# Altium schematic symbol library PIN_CubeSat_schlib.SchLib: 11 symbols
Pins are listed as number, name and electrical type; pins without a type are passive.

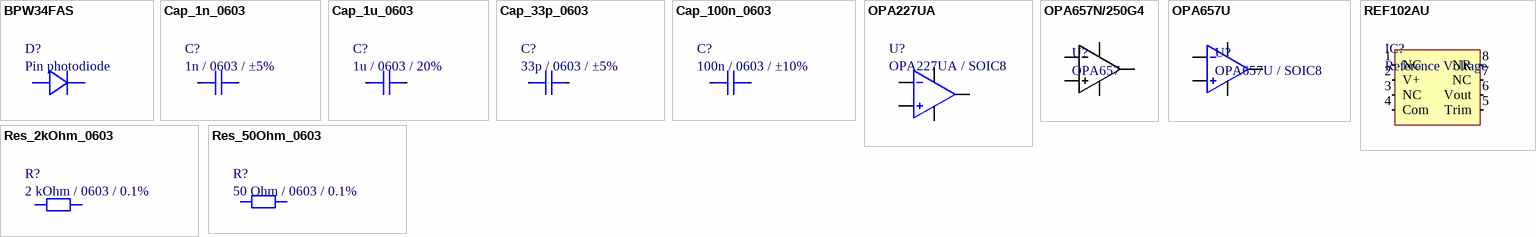
[diagram p0: symbols BPW34FAS to Res_50Ohm_0603]

## BPW34FAS
designator D?, comment Pin photodiode
PHOTODIODE 880NM W/FILTER SMD; Manufacturer: Osram Opto; Manufacturer Part Number: BPW34FAS; Rise Time: 20ns; Dark Current: 2nA; Viewing Angle: 120°; Reverse Breakdown Voltage: 32V; Power Dissipation: 150mW; Max Reverse Voltage (DC): 16V; Forward Voltage: 1.3V; Polarity: Reverse; Forward Current: 100mA; Supplier 1: Mouser; Stock 1: 28913; Pricing 1: 1=1.03, 10=0.802, 100=0.436, 1000=0.382, 1500=0.309, 9000=0.305 (USD); Mount: Surface Mount,PCB; Case/Package: SMD/SMT; Number of Pins: 2; Contact Plating: Tin,Matte; Min Operating Temperature: -40°C; Max Operating Temperature: 100°C; Wavelength: 880nm; Packaging: Bulk; Fall Time: 20ns; Package Quantity: 1500; Diode Type: PIN; Response Time: 20ns; Max Power Dissipation: 150mW; Reverse Voltage (DC): 16V; Length: 4.5mm; Height: 1.2mm; Width: 4mm; Radiation Hardening: No; ComponentLink1URL: http://www.osram-os.com/osram_os/CN/Downloads/IR_data_sheets/documents/BPW34FA_Pb-free_2007_03_30_c.pdf?src-supplier=Avnet; ComponentLink1Description: http://www.osram-os.com/osram_os/CN/Downloads/IR_data_sheets/documents/BPW34FA_Pb-free_2007_03_30_c.pdf?src-supplier=Avnet; ComponentLink2URL: http://uk.rs-online.com/webdocs/08b2/0900766b808b25c9.pdf?src-supplier=RSComponents; ComponentLink2Description: http://uk.rs-online.com/webdocs/08b2/0900766b808b25c9.pdf?src-supplier=RSComponents; ComponentLink3URL: https://media.digikey.com/pdf/Data%20Sheets/Osram%20PDFs/bpw34fa_fas.pdf?src-supplier=Digi-Key; ComponentLink3Description: https://media.digikey.com/pdf/Data%20Sheets/Osram%20PDFs/bpw34fa_fas.pdf?src-supplier=Digi-Key; Supplier Part Number 1: 720-BPW34FAS
footprint BPW34 SMD (VBPW 34 FAS VISHAY)
pins: 1 q, 2

## Cap_1n_0603
designator C?, comment 1n / 0603 / ±5%
WURTH ELEKTRONIK - 885012206083 - CAP, 1000PF, 50V, 10%, X7R, 0603; Manufacturer: Wurth Electronics; Capacitance: 1nF; Supplier 1: Mouser; Manufacturer Part Number: 885012206083; Stock 1: 27742; Pricing 1: 1=0.1, 10=0.018, 100=0.016, 500=0.014, 1000=0.014, 2000=0.014 (USD); Mount: Surface Mount; Case/Package: 0603; Case Code (Metric): 1608; Case Code (Imperial): 0603; Min Operating Temperature: -55°C; Max Operating Temperature: 125°C; Packaging: Cut Tape; Voltage Rating: 50V; Tolerance: 10%; Dielectric: X7R; Voltage Rating (DC): 50V; Length: 0.063inch; Width: 0.031inch; Thickness: 0.037inch; REACH SVHC: Unknown; ComponentLink1URL: http://www.farnell.com/datasheets/1958479.pdf?src-supplier=Farnell; ComponentLink1Description: http://www.farnell.com/datasheets/1958479.pdf?src-supplier=Farnell; ComponentLink2URL: https://katalog.we-online.de/pbs/datasheet/885012206083.pdf?src-supplier=Digi-Key; ComponentLink2Description: https://katalog.we-online.de/pbs/datasheet/885012206083.pdf?src-supplier=Digi-Key; ComponentLink3URL: http://www.farnell.com/datasheets/1958479.pdf?src-supplier=Element14; ComponentLink3Description: http://www.farnell.com/datasheets/1958479.pdf?src-supplier=Element14; ComponentLink4URL: http://www.farnell.com/datasheets/1958479.pdf?src-supplier=Newark; ComponentLink4Description: http://www.farnell.com/datasheets/1958479.pdf?src-supplier=Newark; Supplier Part Number 1: 710-885012206083
footprint Ceramic_Cap_0603 (Chip Capacitor, 2-Leads, Body 1.60x0.80mm, IPC Medium Density)
pins: 1, 2

## Cap_1u_0603
designator C?, comment 1u / 0603 / 20%
WURTH ELEKTRONIK - 885012106017 - SMD Vícevrstvý Keramický Kondenzátor, 1 µF, 16 V, 0603 [1608 Metrické], ± 20%, X5R; Manufacturer: Wurth Electronics; Capacitance: 1uF; Voltage Rating: 16V; Supplier 1: Mouser; Manufacturer Part Number: 885012106017; Stock 1: 24231; Pricing 1: 1=0.3, 10=0.267, 100=0.24, 500=0.212, 1000=0.175, 4000=0.174 (USD); Mount: Surface Mount; Case/Package: 0603; Case Code (Metric): 1608; Case Code (Imperial): 0603; Min Operating Temperature: -55°C; Max Operating Temperature: 85°C; Packaging: Tape and Reel; Tolerance: 20%; Length: 0.063inch; Width: 0.031inch; Thickness: 0.037inch; ComponentLink1URL: http://www.farnell.com/datasheets/2031759.pdf?src-supplier=Newark; ComponentLink1Description: http://www.farnell.com/datasheets/2031759.pdf?src-supplier=Newark; ComponentLink2URL: http://www.farnell.com/datasheets/2031759.pdf?src-supplier=Farnell; ComponentLink2Description: http://www.farnell.com/datasheets/2031759.pdf?src-supplier=Farnell; ComponentLink3URL: https://katalog.we-online.de/pbs/datasheet/885012106017.pdf?src-supplier=Digi-Key; ComponentLink3Description: https://katalog.we-online.de/pbs/datasheet/885012106017.pdf?src-supplier=Digi-Key; ComponentLink4URL: http://www.farnell.com/datasheets/2031759.pdf?src-supplier=Element14; ComponentLink4Description: http://www.farnell.com/datasheets/2031759.pdf?src-supplier=Element14; Supplier Part Number 1: 710-885012106017
footprint Ceramic_Cap_0603 (Chip Capacitor, 2-Leads, Body 1.60x0.80mm, IPC Medium Density)
pins: 1, 2

## Cap_33p_0603
designator C?, comment 33p / 0603 / ±5%
KEMET - C0603C330J2GACTU - SMD Multilayer Ceramic Capacitor, 33 pF, 200 V, 0603 [1608 Metric], ± 5%, C0G / NP0, C Series KEMET; Capacitance: 33pF; Voltage Rating: 200V; Temperature Coefficient: 30ppm/°C; Dissipation Factor: 0.1%; Supplier 1: Mouser; Manufacturer: KEMET; Manufacturer Part Number: C0603C330J2GACTU; Stock 1: 13226; Pricing 1: 1=0.1, 10=0.047, 100=0.046, 500=0.046, 1000=0.046, 4000=0.046 (USD); Mount: Surface Mount; Case/Package: 0603; Number of Pins: 2; Case Code (Metric): 1608; Case Code (Imperial): 0603; Dielectric Material: Ceramic; Min Operating Temperature: -55°C; Max Operating Temperature: 125°C; Tolerance: 5%; Packaging: Tape and Reel; Package Quantity: 1; Voltage Rating (DC): 200V; Dielectric: C0G; Termination: SMD/SMT; Length: 1.6mm; Height: 0.8mm; Width: 0.031inch; Thickness: 0.034inch; Depth: 0.8mm; Lead Pitch: 0.7mm; REACH SVHC: No SVHC; Lead Free: Lead Free; ComponentLink1URL: https://www.verical.com/server-webapp/html/getDatasheet?partID=732561&src-supplier=Verical; ComponentLink1Description: https://www.verical.com/server-webapp/html/getDatasheet?partID=732561&src-supplier=Verical; ComponentLink2URL: http://www.mouser.com/ds/2/212/KEM_C1003_C0G_SMD-1101588.pdf?src-supplier=Mouser; ComponentLink2Description: http://www.mouser.com/ds/2/212/KEM_C1003_C0G_SMD-1101588.pdf?src-supplier=Mouser; ComponentLink3URL: http://www.farnell.com/datasheets/40889.pdf?src-supplier=Element14; ComponentLink3Description: http://www.farnell.com/datasheets/40889.pdf?src-supplier=Element14; Supplier Part Number 1: 80-C0603C330J2G
footprint Model Name (Footprint not found)
footprint Ceramic_Cap_0603 (Chip Capacitor, 2-Leads, Body 1.60x0.80mm, IPC Medium Density)
pins: 1, 2

## Cap_100n_0603
designator C?, comment 100n / 0603 / ±10%
WURTH ELEKTRONIK - 885012206046 - SMD flerskiktig keramisk kondensator, 0.1 µF, 16 V, 0603 [1608 Metrisk], ± 10%, X7R; Manufacturer: Wurth Electronics; Capacitance: 100nF; Voltage Rating: 16V; Supplier 1: Mouser; Manufacturer Part Number: 885012206046; Stock 1: 19698; Pricing 1: 1=0.1, 10=0.056, 100=0.05, 500=0.044, 1000=0.044, 2000=0.037 (USD); Mount: Surface Mount; Case/Package: 0603; Case Code (Metric): 1608; Case Code (Imperial): 0603; Min Operating Temperature: -55°C; Max Operating Temperature: 125°C; Packaging: Cut Tape; Dielectric: X7R; Tolerance: 10%; Voltage Rating (DC): 16V; Length: 0.063inch; Width: 0.031inch; Thickness: 0.034inch; REACH SVHC: Unknown; ComponentLink1URL: http://www.farnell.com/datasheets/1958471.pdf?src-supplier=Element14; ComponentLink1Description: http://www.farnell.com/datasheets/1958471.pdf?src-supplier=Element14; ComponentLink2URL: https://katalog.we-online.de/pbs/datasheet/885012206046.pdf?src-supplier=Digi-Key; ComponentLink2Description: https://katalog.we-online.de/pbs/datasheet/885012206046.pdf?src-supplier=Digi-Key; ComponentLink3URL: http://www.farnell.com/datasheets/1958471.pdf?src-supplier=Farnell; ComponentLink3Description: http://www.farnell.com/datasheets/1958471.pdf?src-supplier=Farnell; ComponentLink4URL: http://www.farnell.com/datasheets/1958471.pdf?src-supplier=Newark; ComponentLink4Description: http://www.farnell.com/datasheets/1958471.pdf?src-supplier=Newark; Supplier Part Number 1: 710-885012206046
footprint Ceramic_Cap_0603 (Chip Capacitor, 2-Leads, Body 1.60x0.80mm, IPC Medium Density)
pins: 1, 2

## OPA227UA
designator U?, comment OPA227UA / SOIC8
OP Amp Single GP 18V 8-Pin SOIC Tube; Manufacturer: Texas Instruments; Nominal Supply Current: 3.8mA; Voltage Gain: 160dB; Min Dual Supply Voltage: 2.5V; Bandwidth: 8MHz; Common Mode Rejection Ratio: 120dB; Number of Channels: 1; Slew Rate: 2.3V/µs; Max I/O Voltage: 200uV; Input Bias Current: 10nA; Output Current: 45mA; Operating Supply Current: 3.7mA; Power Supply Rejection Ratio (PSRR): 126.02dB; Dual Supply Voltage: 9V; Supplier 1: Mouser; Manufacturer Part Number: OPA227UA; Stock 1: 841; Pricing 1: 1=3.92, 10=3.52, 25=3.33, 100=2.74, 250=2.46, 500=2.37 (USD); Case/Package: D; Number of Pins: 8; Contact Plating: Gold; Min Operating Temperature: -40°C; Max Operating Temperature: 85°C; Max Dual Supply Voltage: 18V; Package Quantity: 75; Nominal Gain Bandwidth Product: 8MHz; Packaging: Rail/Tube; Number of Circuits: 1; Gain Bandwidth Product: 8MHz; Input Offset Voltage (Vos): 200uV; Unity Gain Bandwidth Product: 8MHz; Output Current per Channel: 45mA; Number of Elements: 1; Max Supply Voltage: 18V; Number of Amplifiers: 1; Length: 4.9mm; Height: 1.58mm; Width: 3.91mm; Radiation Hardening: No; Lead Free: Lead Free; REACH SVHC: No SVHC; ComponentLink1URL: http://www.jameco.com/Jameco/Products/ProdDS/1486655.pdf?src-supplier=Jameco; ComponentLink1Description: http://www.jameco.com/Jameco/Products/ProdDS/1486655.pdf?src-supplier=Jameco; ComponentLink2URL: http://www.ti.com/lit/ds/symlink/opa227.pdf?src-supplier=Digi-Key; ComponentLink2Description: http://www.ti.com/lit/ds/symlink/opa227.pdf?src-supplier=Digi-Key; ComponentLink3URL: http://www.farnell.com/datasheets/1830992.pdf?src-supplier=Element14; ComponentLink3Description: http://www.farnell.com/datasheets/1830992.pdf?src-supplier=Element14; Supplier Part Number 1: 595-OPA227UA
footprint SOIC8 (SOIC, 8-Leads, Body 5.00x3.98mm, Pitch 1.27mm, IPC Medium Density)
pins: 2 in-, 3 in+, 4 V-, 6 out, 7 V+

## OPA657N/250G4
designator U?, comment OPA657
IC OPAMP VFB 1.6GHZ SOT23-5; Manufacturer: Texas Instruments; Manufacturer Part Number: OPA657N/250G4; Voltage Gain: 70dB; Dual Supply Voltage: 5V; Common Mode Rejection Ratio: 83dB; Max Dual Supply Voltage: 6V; Number of Channels: 1; Slew Rate: 700V/µs; Max I/O Voltage: 600uV; Max Supply Voltage: 12V; Min Supply Voltage: 8V; Input Bias Current: 20pA; Input Offset Voltage (Vos): 250uV; Power Supply Rejection Ratio (PSRR): 76dB; Settling Time: 11ns; -3db Bandwidth: 350MHz; Operating Supply Current: 14mA; Output Current per Channel: 70mA; Supplier 1: Mouser; Stock 1: 0; Case/Package: SOT-23-5; Number of Pins: 5; Min Operating Temperature: -40°C; Max Operating Temperature: 85°C; Packaging: Tape and Reel; Package Quantity: 250; Unity Gain Bandwidth Product: 1.6GHz; Number of Circuits: 1; Gain Bandwidth Product: 1.6GHz; Number of Elements: 1; Bandwidth: 1.6GHz; Operating Supply Voltage: 12V; Length: 2.9mm; Height: 1.15mm; Width: 1.6mm; Lead Free: Lead Free; ComponentLink1URL: http://www.ti.com/lit/ds/symlink/opa657.pdf?src-supplier=Digi-Key; ComponentLink1Description: http://www.ti.com/lit/ds/symlink/opa657.pdf?src-supplier=Digi-Key; ComponentLink2URL: http://focus.ti.com/lit/ds/symlink/opa657.pdf?src-supplier=Avnet; ComponentLink2Description: http://focus.ti.com/lit/ds/symlink/opa657.pdf?src-supplier=Avnet; ComponentLink3URL: http://datasheet.iiic.cc/texas_instruments/OPA657N_250G4.pdf?src-supplier=IIIC; ComponentLink3Description: http://datasheet.iiic.cc/texas_instruments/OPA657N_250G4.pdf?src-supplier=IIIC; Supplier Part Number 1: 595-OPA657N/250G4
pins: 1 out, 2 V-, 3 in+, 4 in-, 5 V+

## OPA657U
designator U?, comment OPA657U / SOIC8
IC OPAMP VFB 1 CIRCUIT 8SOIC; Manufacturer: Texas Instruments; Bandwidth: 350MHz; Dual Supply Voltage: 5V; Max Dual Supply Voltage: 6V; Voltage Gain: 70dB; Unity Gain Bandwidth Product: 1.6GHz; Common Mode Rejection Ratio: 83dB; Number of Channels: 1; Slew Rate: 700V/µs; Max I/O Voltage: 600uV; Max Supply Voltage: 12V; Min Supply Voltage: 8V; Input Bias Current: 20pA; Input Offset Voltage (Vos): 1.8mV; Power Supply Rejection Ratio (PSRR): 76dB; Settling Time: 11ns; Operating Supply Current: 14mA; Output Current per Channel: 70mA; Nominal Supply Current: 16mA; Supplier 1: Mouser; Manufacturer Part Number: OPA657U; Stock 1: 246; Pricing 1: 1=12.96, 10=11.91, 25=11.41, 100=9.56, 250=8.95, 500=8.33 (USD); Case/Package: D; Number of Pins: 8; Weight: 0.002677oz; Contact Plating: Gold; Min Operating Temperature: -40°C; Max Operating Temperature: 85°C; Packaging: Rail/Tube; Package Quantity: 75; Number of Circuits: 1; Gain Bandwidth Product: 1.6GHz; Number of Elements: 1; -3db Bandwidth: 350MHz; Number of Amplifiers: 1; Length: 4.9mm; Height: 1.58mm; Width: 3.91mm; Radiation Hardening: No; Lead Free: Lead Free; REACH SVHC: No SVHC; ComponentLink1URL: http://www.farnell.com/datasheets/1862474.pdf?src-supplier=Element14; ComponentLink1Description: http://www.farnell.com/datasheets/1862474.pdf?src-supplier=Element14; ComponentLink2URL: http://www.jameco.com/Jameco/Products/ProdDS/1361158.pdf?src-supplier=Jameco; ComponentLink2Description: http://www.jameco.com/Jameco/Products/ProdDS/1361158.pdf?src-supplier=Jameco; ComponentLink3URL: http://www.ti.com/lit/ds/symlink/opa657.pdf?src-supplier=Digi-Key; ComponentLink3Description: http://www.ti.com/lit/ds/symlink/opa657.pdf?src-supplier=Digi-Key; ComponentLink4URL: http://focus.ti.com/lit/ds/symlink/opa657.pdf?src-supplier=Avnet+Europe; ComponentLink4Description: http://focus.ti.com/lit/ds/symlink/opa657.pdf?src-supplier=Avnet+Europe; ComponentLink5URL: http://www.ti.com/general/docs/lit/getliterature.tsp?genericPartNumber=OPA657&&fileType=pdf&src-supplier=Avnet; ComponentLink5Description: http://www.ti.com/general/docs/lit/getliterature.tsp?genericPartNumber=OPA657&&fileType=pdf&src-supplier=Avnet; ComponentLink6URL: http://www.produktinfo.conrad.com/datenblaetter/1000000-1099999/001011347-da-01-en-IC_OPAMP_VFB_1_6GHZ_S_OPA657U_SOIC_8_TID.pdf?src-supplier=Conrad; ComponentLink6Description: http://www.produktinfo.conrad.com/datenblaetter/1000000-1099999/001011347-da-01-en-IC_OPAMP_VFB_1_6GHZ_S_OPA657U_SOIC_8_TID.pdf?src-supplier=Conrad; Supplier Part Number 1: 595-OPA657U
footprint SOIC8 (SOIC, 8-Leads, Body 5.00x3.98mm, Pitch 1.27mm, IPC Medium Density)
pins: 2 in-, 3 in+, 4 V-, 6 out, 7 V+

## REF102AU
designator IC?, comment Reference Voltage
V-Ref Precision 10V 10mA 8-Pin SOIC Tube; Manufacturer: Texas Instruments; Manufacturer Part Number: REF102AU; Max Input Voltage: 36V; Min Input Voltage: 11.4V; Nominal Supply Current: 1.4mA; Temperature Coefficient: 5ppm/°C; Reference Type: Series,Fixed; Min Output Voltage: 9.99V; Number of Channels: 1; Supplier 1: Mouser; Stock 1: 449; Pricing 1: 1=5.98, 10=5.37, 25=5.08, 100=4.18, 250=3.75, 500=3.61 (USD); Case/Package: D; Number of Pins: 8; Weight: 0.002677oz; Min Operating Temperature: -25°C; Max Operating Temperature: 85°C; Packaging: Rail/Tube; Output Voltage: 10V; Package Quantity: 75; Quiescent Current: 1.4mA; Output Current: 10mA; Max Supply Current: 1.4mA; Reference Voltage: 10V; Max Output Voltage: 10V; Max Output Current: 10mA; Operating Supply Current: 1.4mA; Current Rating: 10mA; Voltage: 10V; Length: 4.9mm; Height: 1.58mm; Width: 3.91mm; Radiation Hardening: No; REACH SVHC: No SVHC; Lead Free: Lead Free; ComponentLink1URL: http://www.ti.com/general/docs/lit/getliterature.tsp?genericPartNumber=REF102&&fileType=pdf&src-supplier=Avnet; ComponentLink1Description: http://www.ti.com/general/docs/lit/getliterature.tsp?genericPartNumber=REF102&&fileType=pdf&src-supplier=Avnet; ComponentLink2URL: http://www.jameco.com/Jameco/Products/ProdDS/908588.pdf?src-supplier=Jameco; ComponentLink2Description: http://www.jameco.com/Jameco/Products/ProdDS/908588.pdf?src-supplier=Jameco; ComponentLink3URL: http://www.ti.com/lit/ds/symlink/ref102.pdf?src-supplier=Digi-Key; ComponentLink3Description: http://www.ti.com/lit/ds/symlink/ref102.pdf?src-supplier=Digi-Key; ComponentLink4URL: http://www.farnell.com/datasheets/1862375.pdf?src-supplier=Newark; ComponentLink4Description: http://www.farnell.com/datasheets/1862375.pdf?src-supplier=Newark; ComponentLink5URL: http://focus.ti.com/lit/ds/symlink/ref102.pdf?src-supplier=Avnet+Europe; ComponentLink5Description: http://focus.ti.com/lit/ds/symlink/ref102.pdf?src-supplier=Avnet+Europe; ComponentLink6URL: http://datasheet.iiic.cc/texas_instruments/REF102AU.pdf?src-supplier=IIIC; ComponentLink6Description: http://datasheet.iiic.cc/texas_instruments/REF102AU.pdf?src-supplier=IIIC; ComponentLink7URL: http://www.produktinfo.conrad.com/datenblaetter/1000000-1099999/001014441-da-01-en-IC_VREF_SERIES_PREC_REF102AU_SOIC_8_TID.pdf?src-supplier=Conrad; ComponentLink7Description: http://www.produktinfo.conrad.com/datenblaetter/1000000-1099999/001014441-da-01-en-IC_VREF_SERIES_PREC_REF102AU_SOIC_8_TID.pdf?src-supplier=Conrad; Supplier Part Number 1: 595-REF102AU
footprint SOIC8 (SOIC, 8-Leads, Body 5.00x3.98mm, Pitch 1.27mm, IPC Medium Density)
pins: 1 NC, 2 V+ (power), 3 NC, 4 Com (in), 5 Trim (in), 6 Vout (out), 7 NC, 8 NR (in)

## Res_2kOhm_0603
designator R?, comment 2 kOhm / 0603 / 0.1%
VISHAY         P0603Y2001BNT             SMD Chip Resistor, Thin Film, 2 kohm, 75 V, 0603 [1608 Metric], 125 mW,  0.1%; Resistance: 2kR; Temperature Coefficient: 10ppm/°C; Power Rating: 125mW; Voltage Rating: 75V; Supplier 1: Mouser; Manufacturer: Vishay; Manufacturer Part Number: P0603Y2001BNT; Stock 1: 0; Case/Package: 0603; Number of Pins: 2; Case Code (Imperial): 0603; Case Code (Metric): 1608; Contact Plating: Tin,Silver; Min Operating Temperature: -55°C; Max Operating Temperature: 155°C; Tolerance: 0.1%; Packaging: Tape and Reel; Resistor Type: Thin Film; Termination: SMD/SMT; Voltage Rating (DC): 75V; Length: 1.52mm; Height: 0.5mm; Width: 0.85mm; Depth: 0.85mm; Radiation Hardening: No; REACH SVHC: Unknown; Military Standard: Not; ComponentLink1URL: http://www.vishay.com/docs/53017/p.pdf?src-supplier=Avnet; ComponentLink1Description: http://www.vishay.com/docs/53017/p.pdf?src-supplier=Avnet; ComponentLink2URL: http://www.vishay.com/docs/53017/p.pdf?src-supplier=Avnet+Europe; ComponentLink2Description: http://www.vishay.com/docs/53017/p.pdf?src-supplier=Avnet+Europe; ComponentLink3URL: https://www.distrelec.biz/Web/Downloads/ta/_e/rlPserie_data_e.pdf?mime=application%2Fpdf&src-supplier=Distrelec; ComponentLink3Description: https://www.distrelec.biz/Web/Downloads/ta/_e/rlPserie_data_e.pdf?mime=application%2Fpdf&src-supplier=Distrelec; Supplier Part Number 1: 71-P0603Y2001BNT
footprint Resistor_0603
pins: 1, 2

## Res_50Ohm_0603
designator R?, comment 50 Ohm / 0603 / 0.1%
VISHAY FC0603E50R0BST1 RES, THIN FILM, 50R, 0.1%, 0.125W, 0603; Manufacturer: Vishay Dale Thin Film; Voltage Rating: 50V; Power Rating: 125mW; Temperature Coefficient: 25ppm/°C; Frequency: 20GHz; Supplier 1: Mouser; Manufacturer Part Number: FC0603E50R0BST1; Description: VISHAY         FC0603E50R0BST1             RES, THIN FILM, 50R, 0.1%, 0.125W, 0603; Stock 1: 3335; Pricing 1: 1=1.69, 10=1.43, 100=1.17, 500=1.04, 1000=0.94, 2000=0.83 (USD); Case/Package: 0603; Case Code (Metric): 1608; Case Code (Imperial): 0603; Min Operating Temperature: -55°C; Max Operating Temperature: 155°C; Packaging: Tape and Reel; Resistance: 50R; Tolerance: 0.1%; Resistor Type: Thin Film; Voltage Rating (DC): 50V; Termination: SMD/SMT; Package Quantity: 1; Number of Terminations: 2; Max Power Dissipation: 125mW; Length: 0.064inch; Height: 0.015inch; Width: 0.032inch; REACH SVHC: Unknown; ComponentLink1URL: http://www.vishay.com/docs/60093/fcseries.pdf?src-supplier=Digi-Key; ComponentLink1Description: http://www.vishay.com/docs/60093/fcseries.pdf?src-supplier=Digi-Key; ComponentLink2URL: http://www.farnell.com/datasheets/2045976.pdf?src-supplier=Element14; ComponentLink2Description: http://www.farnell.com/datasheets/2045976.pdf?src-supplier=Element14; Supplier Part Number 1: 71-FC0603E50R0BST1
footprint Resistor_0603
pins: 1, 2